# Altium footprint library LibraryPloshchadnaia.PcbLib: 35 footprints (part 3 of 3)
Each footprint in its own frame and in the unit in brackets; x right, y up, seen from the top. Pads: shape width x height; smd on the part's side, far side on the other; paste and mask are expansions set on the pad; w line width, h text height; cw(c..) or ccw(c..) is an arc to the next point about the centre after c.
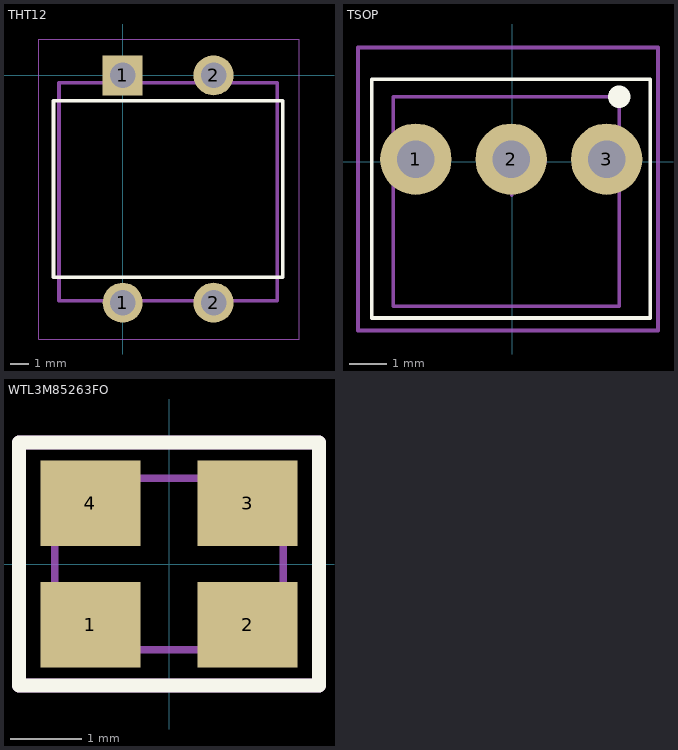
[diagram p2: the footprints below, top view; thin cyan lines are the x and y axes]

## THT12 [mm]
pads (4):
  round 2.2 hole 1.4: 1(0,-12.5) 2(5,-12.5) 2(5,0)
  rect 2.2x2.2 hole 1.4: 1(0,0)
Top Overlay:
  lines w0.2: -3.8,-11.1 -3.8,-1.4 8.8,-1.4 8.8,-11.1 -3.8,-11.1
Top Value (Mech7):
  text ".Comment" at -0.23,-9.699 h1.5
Top Designator:
  text ".Designator" at -0.175,-4 h1.5
Top Outline:
  lines w0.2: -3.5,-12.4 8.5,-12.4 8.5,-11.25 8.5,-0.4 0.65,-0.4 -3.5,-0.4 -3.5,-12.4
Top Courtyard:
  lines w0.05: -4.6,-14.5 9.7,-14.5 9.7,2 -4.6,2 -4.6,-14.5
3D body "bouton_12x12mm.step": height 12, standoff -3.47, extent -3.847,-13.282 8.947,0.782

## TSOP [mm] "????? ????? ? ????????? ??? gnd"
pads (3):
  round 1.9 hole 1: 1(-2.565,0.07)
  round 1.9 hole 1 mask+0.102: 2(-0.025,0.07) 3(2.515,0.07)
Top Overlay:
  circle w0.6: c2.846,1.732 r0.001
  lines w0.1: -3.735,2.197 -3.735,2.197 ; -3.735,2.197 -3.735,-4.157 3.672,-4.157 3.672,2.197 -3.735,2.197
Top Value (Mech7):
  text ".Comment" at -1.981,-3.137 h1.2
Top Designator:
  text ".Designator" at -2.135,-1.817 h1.2
Top Outline:
  lines w0.1: -3.167,1.735 -3.167,-3.841 2.847,-3.841 2.847,1.735 -3.127,1.735
Top Courtyard:
  lines w0.1: -0.862,-0.003 0.881,-0.003 ; -0.04,0.338 -0.014,0.338 ; -0.014,-0.883 -0.014,0.86 ; -4.102,-4.487 -4.102,3.042 3.88,3.042 3.88,-4.487 -4.102,-4.487
3D body "tsop4838.STEP": height 10.47, standoff -1.3, extent -2.999,-4 2.999,1.6

## WTL3M85263FO [mm]
pads (4):
  rect 1.4x1.2 smd: 1(-1.1,-0.85) 2(1.1,-0.85) 3(1.1,0.85) 4(-1.1,0.85)
Top Overlay:
  lines w0.2: -2.1,-1.7 2.1,-1.7 2.1,1.7 -2.1,1.7 -2.1,-1.7
Top Value (Mech7):
  text ".Comment" at 3.519,-0.937 h1.2
Top Designator:
  text ".Designator" at 3.365,0.383 h1.2
Top Outline:
  lines w0.1: -1.6,-1.2 1.6,-1.2 1.6,1.2 -1.6,1.2 -1.6,-1.2
Top Courtyard:
  lines w0.2: -2.1,-1.7 -2.1,1.7 2.1,1.7 2.1,-1.7 -2.1,-1.7
3D body "User Library-SMD-3225_4P.step": height 1.05, standoff 0, extent -1.58,-1.26 1.62,1.24